# EAGLE library part AD7980 (library harrison)
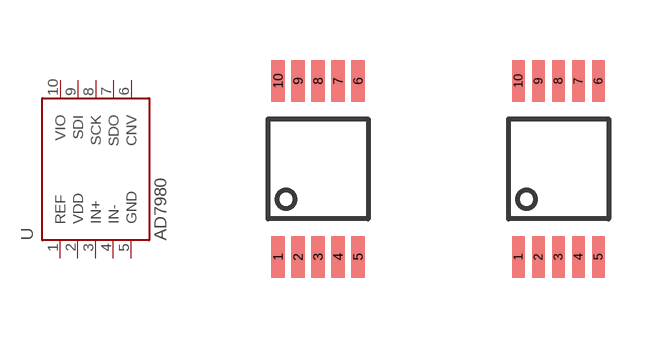
[diagram p44: symbol with the pads of MSOP-10; footprints MSOP-10, MSOP-10_7MIL_SPACE]

Designator prefix U

## AD7980-MSOP  [MSOP-10]
1  REF  in
2  VDD  pwr
3  IN+  in
4  IN-  in
5  GND  pwr
6  CNV  in
7  SDO  out
8  SCK  in
9  SDI  in
10  VIO  pwr

## AD7980-MSOP-7MIL  [MSOP-10_7MIL_SPACE]
Pads as for MSOP-10

## Footprint MSOP-10 (pad centres in mm)
smd 0.34 x 1.04: 1 -1,-2.2; 2 -0.5,-2.2; 3 0,-2.2; 4 0.5,-2.2; 5 1,-2.2; 6 1,2.2; 7 0.5,2.2; 8 0,2.2; 9 -0.5,2.2; 10 -1,2.2

## Footprint MSOP-10_7MIL_SPACE (pad centres in mm)
smd 0.32 x 1.04: 1 -1,-2.2; 2 -0.5,-2.2; 3 0,-2.2; 4 0.5,-2.2; 5 1,-2.2; 6 1,2.2; 7 0.5,2.2; 8 0,2.2; 9 -0.5,2.2; 10 -1,2.2